# Altium schematic symbol library Linear Interface.SchLib: 1 symbol
Pins are listed as number, name and electrical type; pins without a type are passive.

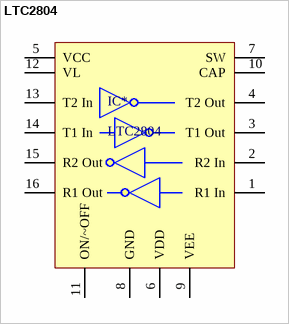
[diagram p0: symbol LTC2804]

## LTC2804
designator IC*
Dual Transiever
footprint 16SSOP (16-Lead Plastic SSOP (Narrow .150 Inch) - GN Package)
pins: 1 R1 In, 2 R2 In, 3 T1 Out, 4 T2 Out, 5 VCC, 6 VDD, 7 SW, 8 GND, 9 VEE, 10 CAP, 11 ON/~OFF, 12 VL, 13 T2 In, 14 T1 In, 15 R2 Out, 16 R1 Out